# Altium footprint library library.PcbLib: 385 footprints (part 7 of 25)
Each footprint in its own frame and in the unit in brackets; x right, y up, seen from the top. Pads: shape width x height; smd on the part's side, far side on the other; paste and mask are expansions set on the pad; w line width, h text height; cw(c..) or ccw(c..) is an arc to the next point about the centre after c.
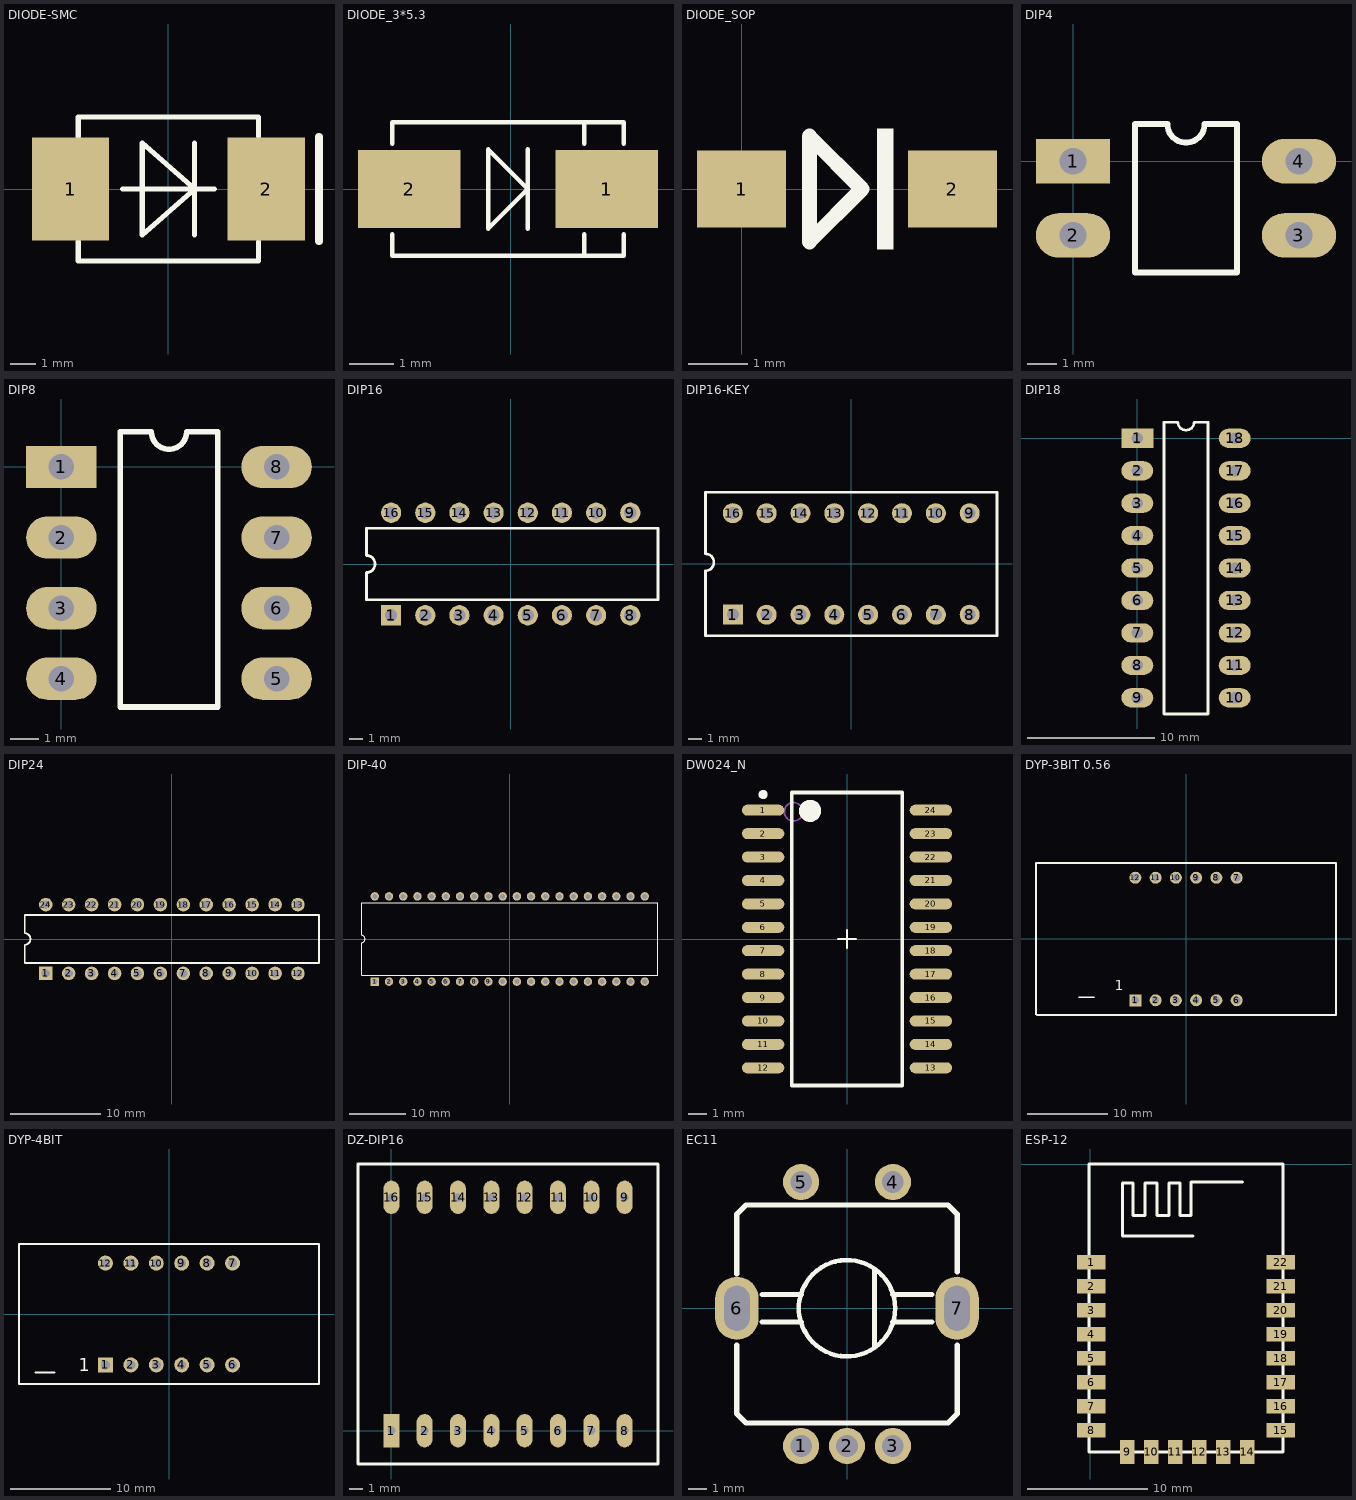
[diagram p6: the footprints below, top view; thin cyan lines are the x and y axes]

## DIODE-SMC [mm] "贴片二极管"
height 1.5
pads (2):
  rect 3x4 smd: 1(-3.8,0) 2(3.8,0)
Top Overlay:
  lines w0.2: -3.5,-2.032 -3.5,-2.794 3.5,-2.794 3.5,-2.032 ; -3.5,2.032 -3.5,2.794 3.5,2.794 3.5,2.032 ; -1.778,0 1.778,0 ; 1.016,-1.778 1.016,1.778 ; -1.016,-1.778 1.016,0 -1.016,1.778 -1.016,-1.778
  lines w0.3: 5.842,-2.032 5.842,2.032
3D body: height 1.05, standoff 1, extent 2.921,-2.794 3.429,2.794
3D body: height 1, standoff 0, extent -3.429,-2.794 3.556,2.794
3D body: height 0.8, standoff 0, extent 3.556,-1.905 3.937,1.905
3D body: height 0.8, standoff 0, extent -3.81,-1.905 -3.429,1.905

## DIODE_3*5.3 [mm]
pads (2):
  rect 2.3x1.75 smd: 1(2.159,0) 2(-2.286,0)
Top Overlay:
  lines w0.1: -2.667,-1.016 -2.667,-1.5 2.54,-1.5 2.54,-1.016 ; -2.667,1.016 -2.667,1.5 2.54,1.5 2.54,1.016 ; 0.381,-0.889 0.381,0.889 ; 1.651,-1.5 1.651,-1.016 ; 1.651,1.016 1.651,1.5 ; -0.508,-0.889 -0.508,0.889 0.381,0 -0.508,-0.889

## DIODE_SOP [mm]
pads (2):
  rect 1.5x1.3 smd: 1(0,0) 2(3.556,0)
Top Overlay:
  rectangle: 2.286,-1.016 2.559,1.016
  lines w0.254: 1.143,-0.889 2.032,0 1.143,0.889 1.143,-0.889

## DIP4 [mm]
pads (4):
  rect 2.5x1.5 hole 0.9: 1(0,0)
  oval 2.5x1.5 hole 0.9: 2(0,-2.5) 3(7.62,-2.5) 4(7.62,0)
Top Overlay:
  lines w0.2: 2.085,-3.75 2.085,1.25 3.185,1.25 ccw(c3.81,1.25) 4.435,1.25 5.535,1.25 5.535,-3.75 2.085,-3.75

## DIP8 [mm]
pads (8):
  rect 2.5x1.5 hole 0.9: 1(0,0)
  oval 2.5x1.5 hole 0.9: 2(0,-2.5) 3(0,-5) 4(0,-7.5) 5(7.62,-7.5) 6(7.62,-5) 7(7.62,-2.5) 8(7.62,0)
Top Overlay:
  lines w0.2: 2.085,-8.5 5.535,-8.5 5.535,1.25 4.435,1.25 cw(c3.81,1.25) 3.185,1.25 2.085,1.25 2.085,-8.5

## DIP16 [mm]
height 5.8
pads (16):
  rect 1.5x1.5 hole 0.9: 1(-8.89,-3.81)
  round 1.5 hole 0.9: 2(-6.35,-3.81) 3(-3.81,-3.81) 4(-1.27,-3.81) 5(1.27,-3.81) 6(3.81,-3.81) 7(6.35,-3.81) 8(8.89,-3.81) 9(8.89,3.81) 10(6.35,3.81) 11(3.81,3.81) 12(1.27,3.81) 13(-1.27,3.81) 14(-3.81,3.81) 15(-6.35,3.81) 16(-8.89,3.81)
Top Overlay:
  lines w0.2: -10.716,-2.65 10.95,-2.65 10.95,2.65 -10.716,2.65 -10.716,0.635 cw(c-10.716,0) -10.716,-0.635 -10.716,-2.65

## DIP16-KEY [mm] "DIP拨码开关"
height 2.65
pads (16):
  rect 1.5x1.5 hole 0.9: 1(-8.89,-3.81)
  round 1.5 hole 0.9: 2(-6.35,-3.81) 3(-3.81,-3.81) 4(-1.27,-3.81) 5(1.27,-3.81) 6(3.81,-3.81) 7(6.35,-3.81) 8(8.89,-3.81) 9(8.89,3.81) 10(6.35,3.81) 11(3.81,3.81) 12(1.27,3.81) 13(-1.27,3.81) 14(-3.81,3.81) 15(-6.35,3.81) 16(-8.89,3.81)
Top Overlay:
  lines w0.2: -10.94,0.76 cw(c-10.94,0.125) -10.94,-0.51 -10.94,-5.4 10.94,-5.4 10.94,5.39 -10.94,5.39 -10.94,0.79

## DIP18 [mm]
pads (18):
  rect 2.5x1.5 hole 0.9: 1(0,0)
  oval 2.5x1.5 hole 0.9: 2(0,-2.54) 3(0,-5.08) 4(0,-7.62) 5(0,-10.16) 6(0,-12.7) 7(0,-15.24) 8(0,-17.78) 9(0,-20.32) 10(7.62,-20.32) 11(7.62,-17.78) 12(7.62,-15.24) 13(7.62,-12.7) 14(7.62,-10.16) 15(7.62,-7.62) 16(7.62,-5.08) 17(7.62,-2.54) 18(7.62,0)
Top Overlay:
  lines w0.2: 2.085,-21.59 2.085,1.27 3.175,1.27 ccw(c3.81,1.27) 4.445,1.27 5.535,1.27 5.535,-21.59 2.085,-21.59

## DIP24 [mm] "DIP; 24,74ls154"
height 5.08
pads (24):
  rect 1.5x1.5 hole 0.9: 1(-13.97,-3.81)
  round 1.5 hole 0.9: 2(-11.43,-3.81) 3(-8.89,-3.81) 4(-6.35,-3.81) 5(-3.81,-3.81) 6(-1.27,-3.81) 7(1.27,-3.81) 8(3.81,-3.81) 9(6.35,-3.81) 10(8.89,-3.81) 11(11.43,-3.81) 12(13.97,-3.81) 13(13.97,3.81) 14(11.43,3.81) 15(8.89,3.81) 16(6.35,3.81) 17(3.81,3.81) 18(1.27,3.81) 19(-1.27,3.81) 20(-3.81,3.81) 21(-6.35,3.81) 22(-8.89,3.81) 23(-11.43,3.81) 24(-13.97,3.81)
Top Overlay:
  lines w0.2: -16.3,-2.65 16.3,-2.65 16.3,2.65 -16.3,2.65 -16.3,0.635 cw(c-16.3,0) -16.3,-0.635 -16.3,-2.65

## DIP-40 [mm] "51单片机"
height 4.7
pads (40):
  rect 1.5x1.5 hole 0.9: 1(-24.13,-7.62)
  round 1.5 hole 0.9: 2(-21.59,-7.62) 3(-19.05,-7.62) 4(-16.51,-7.62) 5(-13.97,-7.62) 6(-11.43,-7.62) 7(-8.89,-7.62) 8(-6.35,-7.62) 9(-3.81,-7.62) 10(-1.27,-7.62) 11(1.27,-7.62) 12(3.81,-7.62) 13(6.35,-7.62) 14(8.89,-7.62) 15(11.43,-7.62) 16(13.97,-7.62) 17(16.51,-7.62) 18(19.05,-7.62) 19(21.59,-7.62) 20(24.13,-7.62) 21(24.13,7.62) 22(21.59,7.62) 23(19.05,7.62) 24(16.51,7.62) 25(13.97,7.62) 26(11.43,7.62) 27(8.89,7.62) 28(6.35,7.62) 29(3.81,7.62) 30(1.27,7.62) 31(-1.27,7.62) 32(-3.81,7.62) 33(-6.35,7.62) 34(-8.89,7.62) 35(-11.43,7.62) 36(-13.97,7.62) 37(-16.51,7.62) 38(-19.05,7.62) 39(-21.59,7.62) 40(-24.13,7.62)
Top Overlay:
  lines w0.2: -26.5,-6.45 26.5,-6.45 26.5,6.45 -26.5,6.45 -26.5,0.635 cw(c-26.5,0) -26.5,-0.635 -26.5,-6.45

## DW024_N [mm] "74hc154"
height 2.65
pads (24):
  oval 2.3x0.6 smd: 1(-4.55,6.985) 2(-4.55,5.715) 3(-4.55,4.445) 4(-4.55,3.175) 5(-4.55,1.905) 6(-4.55,0.635) 7(-4.55,-0.635) 8(-4.55,-1.905) 9(-4.55,-3.175) 10(-4.55,-4.445) 11(-4.55,-5.715) 12(-4.55,-6.985) 13(4.55,-6.985) 14(4.55,-5.715) 15(4.55,-4.445) 16(4.55,-3.175) 17(4.55,-1.905) 18(4.55,-0.635) 19(4.55,0.635) 20(4.55,1.905) 21(4.55,3.175) 22(4.55,4.445) 23(4.55,5.715) 24(4.55,6.985)
Top Overlay:
  circle w0.6: c-2,6.95 r0.3
  circle w0.25: c-4.55,7.835 r0.125
  lines w0.1: -0.5,0 0.5,0 ; 0,-0.5 0,0.5
  lines w0.2: -3,-7.95 3,-7.95 3,7.95 -3,7.95 -3,-7.95
Mechanical 13:
  circle w0.1: c-2.9,6.9 r0.5
3D body: height 2.65, standoff 0, extent -3.8,-7.8 3.8,7.8

## DYP-3BIT 0.56 [mm] "数码管"
height 8
pads (12):
  rect 1.5x1.5 hole 0.9: 1(-6.35,-7.68)
  round 1.5 hole 0.9: 2(-3.81,-7.68) 3(-1.27,-7.68) 4(1.27,-7.68) 5(3.81,-7.68) 6(6.35,-7.68) 7(6.35,7.68) 8(3.81,7.68) 9(1.27,7.68) 10(-1.27,7.68) 11(-3.81,7.68) 12(-6.35,7.68)
Top Overlay:
  lines w0.2: -14.986,-9.5 14.986,-9.5 ; -14.986,9.485 14.986,9.485 ; -13.405,-7.3 -11.5,-7.3
  lines w0.254: -18.8,-8.8 -18.8,8.7 ; -18.8,-8.6 -18.8,-9.4 -18.7,-9.5 -15.1,-9.5 ; -18.8,8.4 -18.8,9.5 ; -17.8,-9.5 18.7,-9.5 18.8,-9.5 ; 18.8,-7.9 18.8,3.8 18.8,7.3 ; 18.8,-7.6 18.8,-9.5 ; 18.8,7 18.8,9.5 12.8,9.5 -18.8,9.5 ; -18.8,9.5 -18.8,9.5 ; 18.8,-9.5 18.8,-9.5
  text "1" at -8.9,-6.4 h1.27

## DYP-4BIT [mm] "数码管"
height 1.2
pads (12):
  rect 1.5x1.5 hole 0.9: 1(-6.35,-5.08)
  round 1.5 hole 0.9: 2(-3.81,-5.08) 3(-1.27,-5.08) 4(1.27,-5.08) 5(3.81,-5.08) 6(6.35,-5.08) 7(6.35,5.08) 8(3.81,5.08) 9(1.27,5.08) 10(-1.27,5.08) 11(-3.81,5.08) 12(-6.35,5.08)
Top Overlay:
  lines w0.2: -13.335,-5.842 -11.43,-5.842 ; -14.986,-6.985 -14.986,6.985 14.986,6.985 14.986,-6.985 -14.986,-6.985
  text "1" at -9.017,-5.715 h1.27

## DZ-DIP16 [mm]
pads (16):
  rect 1.2x2.5 hole 0.6: 1(0,0)
  oval 1.2x2.5 hole 0.6: 2(2.5,0) 3(5,0) 4(7.5,0) 5(10,0) 6(12.5,0) 7(15,0) 8(17.5,0) 9(17.5,17.5) 10(15,17.5) 11(12.5,17.5) 12(10,17.5) 13(7.5,17.5) 14(5,17.5) 15(2.5,17.5) 16(0,17.5)
Top Overlay:
  lines w0.254: 17.5,20 20,20 20,-2.5 20,-2.5 0,-2.5 0,-2.5 -2.5,-2.5 -2.5,20 -2.5,20 18.5,20

## EC11 [mm]
pads (7):
  round 2 hole 1.2: 1(-2.54,-7.62) 2(0,-7.62) 3(2.54,-7.62) 4(2.54,6.985) 5(-2.54,6.985)
  oval 2.4x3.5 hole 1.4 slot 2.5 at 90 deg: 6(-6.096,0) 7(6.096,0)
Top Overlay:
  circle w0.254: c0,0 r2.667
  lines w0.3: -6.096,-2.032 -6.096,-5.842 -5.588,-6.35 5.588,-6.35 6.096,-5.842 6.096,-2.032 ; -6.096,1.905 -6.096,5.207 -5.588,5.715 5.588,5.715 6.096,5.207 6.096,2.032 ; -4.699,-0.762 -2.54,-0.762 ; -4.699,0.762 -2.54,0.762 ; 1.524,-2.159 1.524,2.159 ; 2.54,-0.762 4.699,-0.762 ; 2.54,0.762 4.699,0.762

## ESP-12 [mm]
pads (22):
  rect 2.4x1.2 smd: 1(0.1,-8.2) 2(0.1,-10.2) 3(0.1,-12.2) 4(0.1,-14.2) 5(0.1,-16.2) 6(0.1,-18.2) 7(0.1,-20.2) 8(0.1,-22.2) 15(15.9,-22.2) 16(15.9,-20.2) 17(15.9,-18.2) 18(15.9,-16.2) 19(15.9,-14.2) 20(15.9,-12.2) 21(15.9,-10.2) 22(15.9,-8.2)
  rect 1.2x2 smd: 9(3.1,-24) 10(5.1,-24) 11(7.1,-24) 12(9.1,-24) 13(11.1,-24) 14(13.1,-24)
Top Overlay:
  lines w0.254: 8.6,-6 2.7,-6 2.7,-1.6 3.6,-1.6 3.6,-4.3 4.6,-4.3 4.6,-1.6 5.6,-1.6 5.6,-4.3 6.6,-4.3 6.6,-1.6 7.5,-1.6 7.5,-4.3 8.4,-4.3 8.4,-1.5 12.7,-1.5 ; -0.1,-24 -0.1,0 16.1,0 16.1,-24 -0.1,-24